# EAGLE library part CON_01X11 (library PP_Connectors)
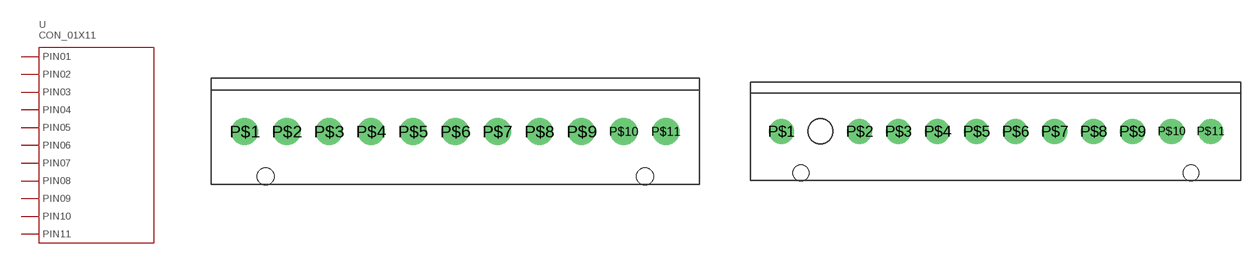
[diagram p19: symbol with the pads of 26-64-4110; footprints 26-64-4110, 26-64-4120(KEYPIN2)]

Designator prefix U

## CON_01X11_26-64-4110 (POPULATE: 1)  [26-64-4110]
P$1  1
P$2  2
P$3  3
P$4  4
P$5  5
P$6  6
P$7  7
P$8  8
P$9  9
P$10  10
P$11  11

## CON_01X11_26-64-4120(KEYPIN2) (POPULATE: 1)  [26-64-4120(KEYPIN2)]
Pads as for 26-64-4110

## CON_01X11_26-64-4120(KEYPIN6) (POPULATE: 1)  [26-64-4120(KEYPIN6)]
Pads as for 26-64-4110

## Footprint 26-64-4110 (pad centres in mm)
drill 1.7: P$1 -19.8,0; P$2 -15.84,0; P$3 -11.88,0; P$4 -7.92,0; P$5 -3.96,0; P$6 0,0; P$7 3.96,0; P$8 7.92,0; P$9 11.88,0; P$10 15.84,0; P$11 19.8,0
hole 1.6 at -17.855,-4.24
hole 1.6 at 17.855,-4.24

## Footprint 26-64-4120(KEYPIN2) (pad centres in mm)
drill 1.7: P$1 -21.78,0; P$2 -13.86,0; P$3 -9.9,0; P$4 -5.94,0; P$5 -1.98,0; P$6 1.98,0; P$7 5.94,0; P$8 9.9,0; P$9 13.86,0; P$10 17.82,0; P$11 21.78,0
hole 1.6 at -19.8,-4.24
hole 1.6 at 19.8,-4.24

## Footprint 26-64-4120(KEYPIN6) (pad centres in mm)
drill 1.7: P$1 -21.78,0; P$2 -17.82,0; P$3 -13.86,0; P$4 -9.9,0; P$5 -5.94,0; P$6 1.98,0; P$7 5.94,0; P$8 9.9,0; P$9 13.86,0; P$10 17.82,0; P$11 21.78,0
hole 1.6 at -19.8,-4.24
hole 1.6 at 19.8,-4.24